# Altium schematic symbol library 0ZCK0050FF2E.SchLib: 1 symbol
Pins are listed as number, name and electrical type; pins without a type are passive.

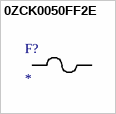
[diagram p0: symbol 0ZCK0050FF2E]

## 0ZCK0050FF2E
designator F?
No Description Available; Mfr_Name: Belfuse
footprint 0ZCK_BEL
pins: 1, 2